# EAGLE library part HDR1X6-F (library Cynara-Connectors)
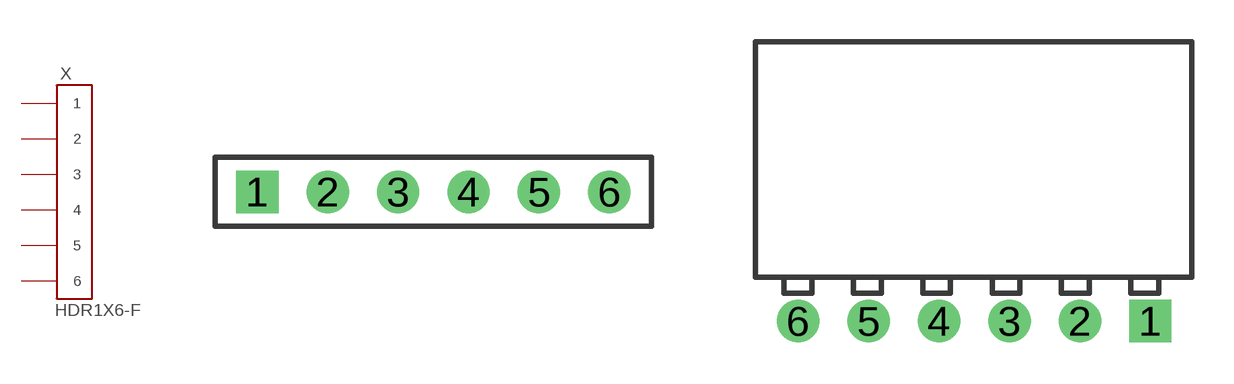
[diagram p7: symbol with the pads of 1X6_FEM; footprints 1X6_FEM, 1X6_RA_FEM]

Designator prefix X

## HDR1X6-F-VERT (MANUFACTURER: WURTH; MANUFACTURERPARTNO: 61300611821; VALUE: SOCK1X6)  [1X6_FEM]
1  1  pas
2  2  pas
3  3  pas
4  4  pas
5  5  pas
6  6  pas

## HDR1X6-F-RA (MANUFACTURER: WURTH; MANUFACTURERPARTNO: 613006143121; VALUE: SOCK1X6 RA)  [1X6_RA_FEM]
Pads as for 1X6_FEM

## Footprint 1X6_FEM (pad centres in mm)
WR-PHD 2.54mm Socket Header, 6 Pins
drill 1.02 square: 1 -6.35,0
drill 1.02: 2 -3.81,0; 3 -1.27,0; 4 1.27,0; 5 3.81,0; 6 6.35,0

## Footprint 1X6_RA_FEM (pad centres in mm)
WR-PHD 2.54mm Angled Socket Header, 6 Pins
drill 1.02 square: 1 12.7,0
drill 1.02: 2 10.16,0; 3 7.62,0; 4 5.08,0; 5 2.54,0; 6 0,0